# Altium footprint library PCB - LEADLESS - QFN50P200X200X80-10N-D.PcbLib: 1 footprints
Each footprint in its own frame and in the unit in brackets; x right, y up, seen from the top. Pads: shape width x height; smd on the part's side, far side on the other; paste and mask are expansions set on the pad; w line width, h text height; cw(c..) or ccw(c..) is an arc to the next point about the centre after c.
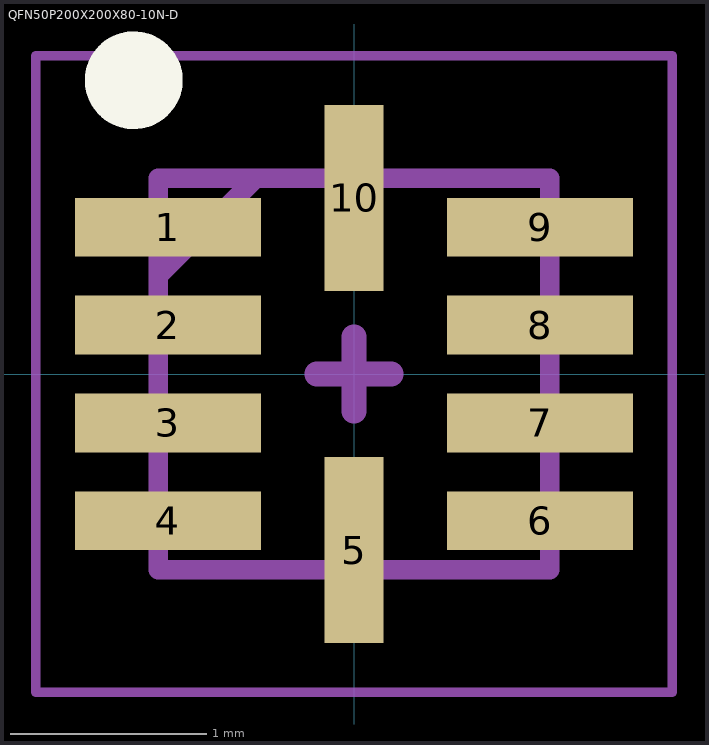
[diagram p0: the footprint, top view; thin cyan lines are the x and y axes]

## QFN50P200X200X80-10N-D [mm]
pads (10):
  rect 0.95x0.3 smd: 1(-0.95,0.75) 2(-0.95,0.25) 3(-0.95,-0.25) 4(-0.95,-0.75) 6(0.95,-0.75) 7(0.95,-0.25) 8(0.95,0.25) 9(0.95,0.75)
  rect 0.3x0.95 smd: 5(0,-0.9) 10(0,0.9)
Top Overlay:
  circle w0.25: c-1.125,1.5 r0.125
Top Assembly:
  lines w0.1: -1,0.5 -0.5,1 ; -1,-1 1,-1 1,1 -1,1 -1,-1
Top Courtyard:
  lines w0.05: -1.625,-1.625 1.625,-1.625 1.625,1.625 -1.625,1.625 -1.625,-1.625
Top Designator:
  text ".Designator" at -1.575,1.829 h0.3
Top Component Center:
  lines w0.127: -0.191,0 0.191,0 ; 0,-0.191 0,0.191
3D body "THS4561IRUNR.stp": height 0.8, standoff 0, extent -1,-1 1,1